# Altium schematic symbol library Schlib1.SchLib: 8 symbols
Pins are listed as number, name and electrical type; pins without a type are passive.

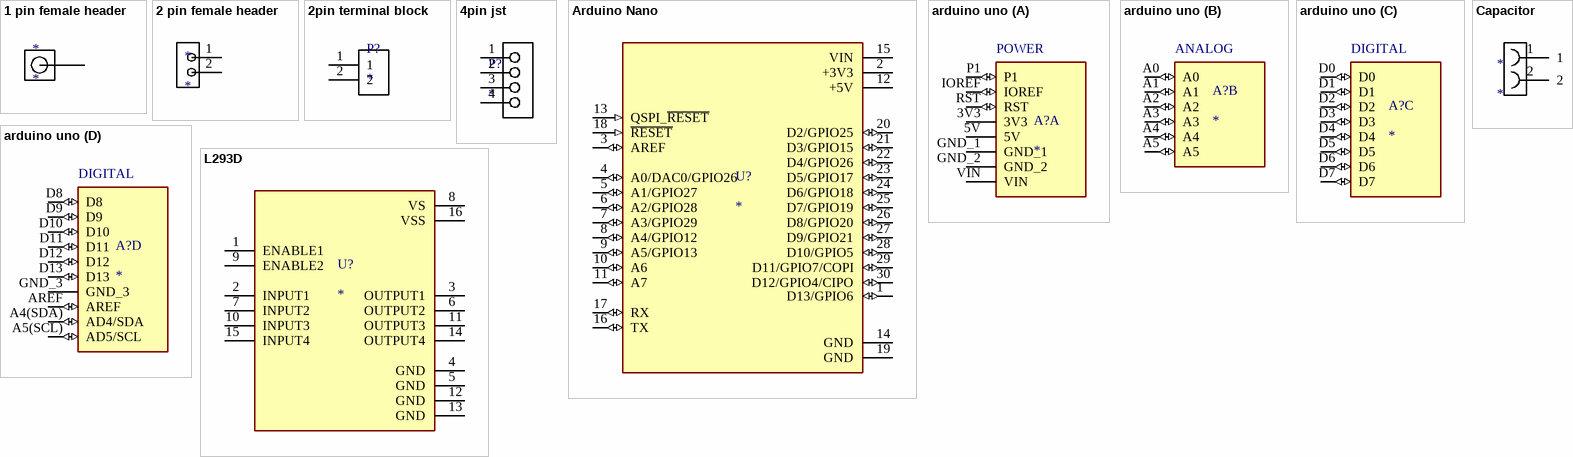
[diagram p0: symbols 1 pin female header to L293D]

## 1 pin female header
designator *
footprint 1 pin female header
pins: 1

## 2 pin female header
designator *
footprint 2 pin female header
pins: 1, 2

## 2pin terminal block
designator P?
Connector Terminal Blocks Receptacle 2 Position 5.08mm Solder Straight Thru-Hole 13.5A/Contact; MP: 282837-2; MF: TE Connectivity; Check_prices: https://www.snapeda.com/parts/282837-2/TE+Connectivity+AMP+Connectors/view-part/?ref=eda; Value: *; Availability: In Stock; Price: None; Package: None; SnapEDA_Link: https://www.snapeda.com/parts/282837-2/TE+Connectivity+AMP+Connectors/view-part/?ref=snap; Purchase-URL: https://pricing.snapeda.com/search/part/282837-2/?ref=eda
footprint 2pin terminal block
pins: 1, 2

## 4pin jst
designator P?
Connector Header Through Hole 4 position 0.079 (2.00mm); MP: B4B-PH-K; MF: JST; SnapEDA_Link: https://www.snapeda.com/parts/B4B-PH-K/JST/view-part/?ref=snap; Package: None; Check_prices: https://www.snapeda.com/parts/B4B-PH-K/JST/view-part/?ref=eda; Purchase-URL: https://pricing.snapeda.com/search/part/B4B-PH-K/?ref=eda; Price: None; Value: *; Availability: In Stock
footprint 4pin jst
pins: 1, 2, 3, 4

## Arduino Nano
designator U?
NINA-W102, RP2040 Arduino Nano RP2040 Connect with Headers series ARMÂ® CortexÂ®-M0+ MCU 32-Bit Embedded Evaluation Board; MP: ABX00053; Value: *; SnapEDA_Link: https://www.snapeda.com/parts/ABX00053/Arduino/view-part/?ref=snap; MF: Arduino; Purchase-URL: https://pricing.snapeda.com/search/part/ABX00053/?ref=eda; Check_prices: https://www.snapeda.com/parts/ABX00053/Arduino/view-part/?ref=eda; Digi-Key_Part_Number: 1050-ABX00053-ND; Package: None
footprint Arduino Nano
pins: 1 D13/GPIO6 (io), 2 +3V3 (power), 3 AREF (io), 4 A0/DAC0/GPIO26 (io), 5 A1/GPIO27 (io), 6 A2/GPIO28 (io), 7 A3/GPIO29 (io), 8 A4/GPIO12 (io), 9 A5/GPIO13 (io), 10 A6 (io), 11 A7 (io), 12 +5V (power), 13 QSPI_~{RESET} (in), 14 GND (power), 15 VIN (power), 16 TX (io), 17 RX (io), 18 ~{RESET} (in), 19 GND (power), 20 D2/GPIO25 (io), 21 D3/GPIO15 (io), 22 D4/GPIO26 (io), 23 D5/GPIO17 (io), 24 D6/GPIO18 (io), 25 D7/GPIO19 (io), 26 D8/GPIO20 (io), 27 D9/GPIO21 (io), 28 D10/GPIO5 (io), 29 D11/GPIO7/COPI (io), 30 D12/GPIO4/CIPO (io)

## arduino uno
designator A?
A000066 | Arduino Uno Rev3 Arduino Corporation Embedded System Development Boards & Kits Microcontroller 16MHz - Arrow.com; Price: None; Availability: In Stock; Package: Non-Standard Arduino; MP: A000066; Value: *; SnapEDA_Link: https://www.snapeda.com/parts/A000066/Arduino/view-part/?ref=snap; MF: Arduino; Purchase-URL: https://pricing.snapeda.com/search/part/A000066/?ref=eda; Check_prices: https://www.snapeda.com/parts/A000066/Arduino/view-part/?ref=eda
part A pins: 3V3 (power), 5V (power), GND_1 (power), GND_2 (power), IOREF (io), P1 (io), RST (io), VIN (power)
part B pins: A0 (io), A1 (io), A2 (io), A3 (io), A4 (io), A5 (io)
part C pins: D0 (io), D1 (io), D2 (io), D3 (io), D4 (io), D5 (io), D6 (io), D7 (io)
part D pins: A4(SDA) AD4/SDA (io), A5(SCL) AD5/SCL (io), AREF (io), D8 (io), D9 (io), D10 (io), D11 (io), D12 (io), D13 (io), GND_3 (power)
part A text: POWER
part B text: ANALOG
part C text: DIGITAL
part D text: DIGITAL

## Capacitor
designator *
footprint Capacitor
pins: 1, 2

## L293D
designator U?
Bipolar Motor Driver - Parallel 16-PowerDIP; MP: L293D; MF: STMicroelectronics; Price: None; Availability: In Stock; Package: DIP-16 STMicroelectronics; Value: *; SnapEDA_Link: https://www.snapeda.com/parts/L293D/STMicroelectronics/view-part/?ref=snap; Purchase-URL: https://pricing.snapeda.com/search/part/L293D/?ref=eda; Check_prices: https://www.snapeda.com/parts/L293D/STMicroelectronics/view-part/?ref=eda
footprint L293D
pins: 1 ENABLE1, 2 INPUT1, 3 OUTPUT1, 4 GND (power), 5 GND (power), 6 OUTPUT2, 7 INPUT2, 8 VS (power), 9 ENABLE2, 10 INPUT3, 11 OUTPUT3, 12 GND (power), 13 GND (power), 14 OUTPUT4, 15 INPUT4, 16 VSS (power)